# Altium schematic symbol library Sheet_2023-03-16.SCHLIB: 28 symbols
Pins are listed as number, name and electrical type; pins without a type are passive.

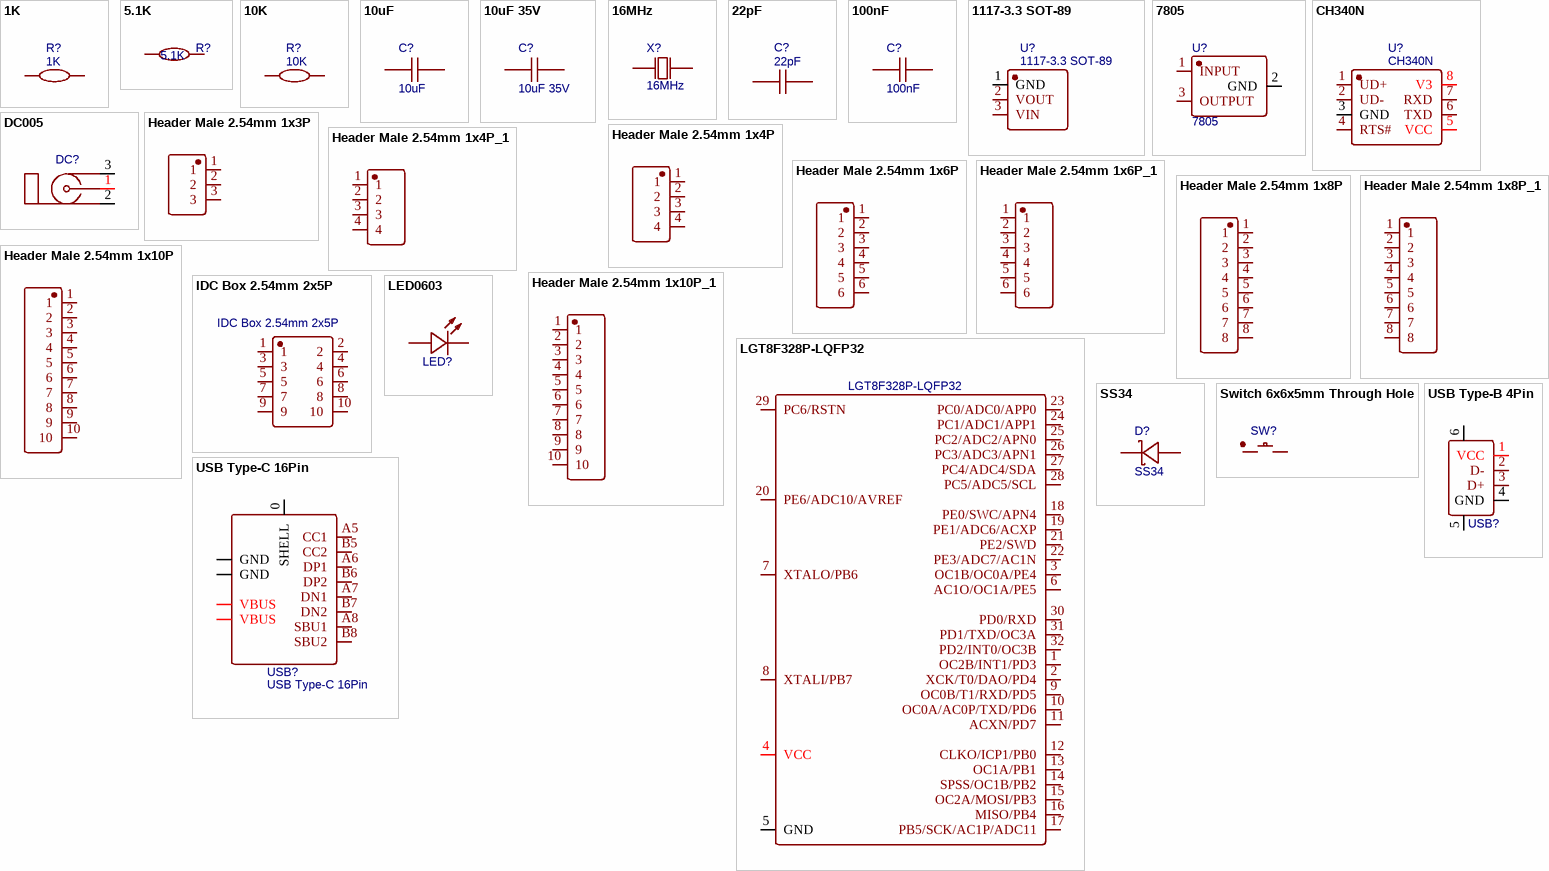
[diagram p0: symbols 1K to USB Type-C 16Pin]

## 1K
designator R?
Contributor: yanranxiaoxi; spicePre: R; spiceSymbolName: R0603
footprint R0603
pins: 1, 2

## 5.1K
designator R?
Contributor: yanranxiaoxi; spicePre: R; spiceSymbolName: R0603
footprint R0603
pins: 1, 2

## 10K
designator R?
Contributor: yanranxiaoxi; spicePre: R; spiceSymbolName: R0603
footprint R0603
pins: 1, 2

## 10uF
designator C?
Contributor: yanranxiaoxi; spicePre: C; spiceSymbolName: C0603
footprint C0603
pins: 1, 2

## 10uF 35V
designator C?
Contributor: yanranxiaoxi; spicePre: C; spiceSymbolName: C0603
footprint C0603
pins: 1, 2

## 16MHz
designator X?
nameAlias: Value; Contributor: 梦之精灵影像设计协会; spicePre: X; spiceSymbolName: HC-49S
footprint HC-49S_L11.0-W4.6-P4.88
pins: 1 OSC1, 2 OSC2

## 22pF
designator C?
Contributor: yanranxiaoxi; spicePre: C; spiceSymbolName: C0603
footprint C0603
pins: 1, 2

## 100nF
designator C?
Contributor: yanranxiaoxi; spicePre: C; spiceSymbolName: C0603
footprint C0603
pins: 1, 2

## 1117-3.3 SOT-89
designator U?
BOM_Manufacturer: UMW(友台半导体); BOM_Manufacturer Part: AMS1117-3.3; Contributor: 梦之精灵影像设计协会; BOM_Supplier: LCSC; BOM_Supplier Part: C347256; spicePre: U; spiceSymbolName: 1117-3.3 SOT-89
footprint SOT-89-3_L4.5-W2.5-P1.50-LS4.1-BR
pins: 1 GND, 2 VOUT, 3 VIN

## 7805
designator U?
BOM_Manufacturer: PJSEMI; BOM_Manufacturer Part: PJ7805TE; Contributor: 梦之精灵影像设计协会; BOM_Supplier: LCSC; BOM_Supplier Part: C469396; spicePre: U; spiceSymbolName: 7805
footprint TO-252-2_L6.6-W6.1-P4.57-LS9.9-BR-CW
pins: 1 INPUT, 2 GND, 3 OUTPUT

## CH340N
designator U?
BOM_Manufacturer: WCH; Contributor: 梦之精灵影像设计协会; BOM_Supplier: LCSC; BOM_Supplier Part: C506813; BOM_Manufacturer Part: CH340N; spicePre: U; spiceSymbolName: CH340N
footprint SOP-8_L5.0-W4.0-P1.27-LS6.0-BL
pins: 1 UD+, 2 UD-, 3 GND, 4 RTS#, 5 VCC, 6 TXD, 7 RXD, 8 V3

## DC005
designator DC?  (value not drawn)
BOM_Manufacturer: SOFNG; BOM_Manufacturer Part: DC005-2.5MM; Contributor: 梦之精灵影像设计协会; BOM_Supplier: LCSC; BOM_Supplier Part: C111573; spicePre: D; spiceSymbolName: DC005 2.5mm
footprint DC-IN-TH_DC-005
pins: 1 VCC, 2, 3

## Header Male 2.54mm 1x3P
designator JUMP?  (value not drawn)
Contributor: 梦之精灵影像设计协会; spicePre: H; spiceSymbolName: Header Male 2.54mm 1x3P
footprint HDR-TH_P2.54-1X3P
pins: 1, 2, 3

## Header Male 2.54mm 1x4P
designator H?  (value not drawn)
Contributor: 梦之精灵影像设计协会; spicePre: H; spiceSymbolName: Header Male 2.54mm 1x4P
footprint HDR-TH_P2.54-1X4P
pins: 1, 2, 3, 4

## Header Male 2.54mm 1x4P_1
designator H1-?, comment Header Male 2.54mm 1x4P  (value not drawn)
Contributor: 梦之精灵影像设计协会; spicePre: H; spiceSymbolName: Header Male 2.54mm 1x4P
footprint HDR-TH_P2.54-1X4P
pins: 1, 2, 3, 4

## Header Male 2.54mm 1x6P
designator H?  (value not drawn)
Contributor: 梦之精灵影像设计协会; spicePre: H; spiceSymbolName: Header Male 2.54mm 1x6P
footprint HDR-TH_P2.54-1X6P
pins: 1, 2, 3, 4, 5, 6

## Header Male 2.54mm 1x6P_1
designator H3-?, comment Header Male 2.54mm 1x6P  (value not drawn)
Contributor: 梦之精灵影像设计协会; spicePre: H; spiceSymbolName: Header Male 2.54mm 1x6P
footprint HDR-TH_P2.54-1X6P
pins: 1, 2, 3, 4, 5, 6

## Header Male 2.54mm 1x8P
designator H?  (value not drawn)
Contributor: 梦之精灵影像设计协会; spicePre: H; spiceSymbolName: Header Male 2.54mm 1x8P
footprint HDR-TH_P2.54-1X8P
pins: 1, 2, 3, 4, 5, 6, 7, 8

## Header Male 2.54mm 1x8P_1
designator H5-?, comment Header Male 2.54mm 1x8P  (value not drawn)
Contributor: 梦之精灵影像设计协会; spicePre: H; spiceSymbolName: Header Male 2.54mm 1x8P
footprint HDR-TH_P2.54-1X8P
pins: 1, 2, 3, 4, 5, 6, 7, 8

## Header Male 2.54mm 1x10P
designator H?  (value not drawn)
Contributor: 梦之精灵影像设计协会; spicePre: H; spiceSymbolName: Header Male 2.54mm 1x10P
footprint HDR-TH_P2.54-1X10P
pins: 1, 2, 3, 4, 5, 6, 7, 8, 9, 10

## Header Male 2.54mm 1x10P_1
designator H4-?, comment Header Male 2.54mm 1x10P  (value not drawn)
Contributor: 梦之精灵影像设计协会; spicePre: H; spiceSymbolName: Header Male 2.54mm 1x10P
footprint HDR-TH_P2.54-1X10P
pins: 1, 2, 3, 4, 5, 6, 7, 8, 9, 10

## IDC Box 2.54mm 2x5P
designator P?
BOM_Manufacturer: BOOMELE; Contributor: 梦之精灵影像设计协会; BOM_Supplier: LCSC; BOM_Manufacturer Part: IDC Box 2.54mm 2X5P; BOM_Supplier Part: C5665; spicePre: P; spiceSymbolName: IDC Box 2.54mm 2x5P
footprint IDC-TH_P2.54-V-2X5P
pins: 1, 2, 3, 4, 5, 6, 7, 8, 9, 10

## LED0603
designator LED?  (value not drawn)
Contributor: 梦之精灵影像设计协会; spicePre: L; spiceSymbolName: LED0603
footprint LED0603
pins: 1 A, 2 C

## LGT8F328P-LQFP32
designator U?
Contributor: 梦之精灵影像设计协会; spicePre: U; spiceSymbolName: LGT8F328P-LQFP32
footprint LQFP-32-WITH-SOCKET-TH-TP01N_L24.0-W24.0-BL
pins: 1 OC2B/INT1/PD3, 2 XCK/T0/DAO/PD4, 3 OC1B/OC0A/PE4, 4 VCC, 5 GND, 6 AC1O/OC1A/PE5, 7 XTALO/PB6, 8 XTALI/PB7, 9 OC0B/T1/RXD/PD5, 10 OC0A/AC0P/TXD/PD6, 11 ACXN/PD7, 12 CLKO/ICP1/PB0, 13 OC1A/PB1, 14 SPSS/OC1B/PB2, 15 OC2A/MOSI/PB3, 16 MISO/PB4, 17 PB5/SCK/AC1P/ADC11, 18 PE0/SWC/APN4, 19 PE1/ADC6/ACXP, 20 PE6/ADC10/AVREF, 21 PE2/SWD, 22 PE3/ADC7/AC1N, 23 PC0/ADC0/APP0, 24 PC1/ADC1/APP1, 25 PC2/ADC2/APN0, 26 PC3/ADC3/APN1, 27 PC4/ADC4/SDA, 28 PC5/ADC5/SCL, 29 PC6/RSTN, 30 PD0/RXD, 31 PD1/TXD/OC3A, 32 PD2/INT0/OC3B

## SS34
designator D?
BOM_Manufacturer: BORNSEMI; Contributor: 梦之精灵影像设计协会; BOM_Supplier: LCSC; BOM_Manufacturer Part: SS34; BOM_Supplier Part: C266553; spicePre: D; spiceSymbolName: SS34
footprint SMA_L4.3-W2.7-LS5.3-RD
pins: 1 K, 2 A

## Switch 6x6x5mm Through Hole
designator SW?  (value not drawn)
BOM_Manufacturer: 韩国韩荣; BOM_Manufacturer Part: K2-1102DP-C3SW-04; Contributor: 梦之精灵影像设计协会; BOM_Supplier Part: C2685958; BOM_Supplier: LCSC; spicePre: S; spiceSymbolName: Switch 6x6x5mm Through Hole
footprint SW-TH_4P-L6.0-W6.0-H5.0-LS
pins: 1, 2

## USB Type-B 4Pin
designator USB?  (value not drawn)
BOM_Manufacturer Part: USB-BF90; Contributor: 梦之精灵影像设计协会; BOM_Supplier Part: C26349; BOM_Supplier: LCSC; spicePre: U; spiceSymbolName: USB Type-B 4Pin
footprint USB-B-TH_4P-L16.3-W12.0-H11.0
pins: 1 VCC, 2 D-, 3 D+, 4 GND, 5 SHLD, 6 SHLD

## USB Type-C 16Pin
designator USB?
BOM_Manufacturer: 韩国韩荣; BOM_Manufacturer Part: TYPE-C-31-M-12; Contributor: 梦之精灵影像设计协会; BOM_Supplier: LCSC; BOM_Supplier Part: C165948; spicePre: U; spiceSymbolName: USB Type-C 16Pin
footprint USB-C-SMD_TYPE-C-31-M-12
pins: 0 SHELL, A1/B12 GND, A4/B9 VBUS, A5 CC1, A6 DP1, A7 DN1, A8 SBU1, A9/B4 VBUS, A12/B1 GND, B5 CC2, B6 DP2, B7 DN2, B8 SBU2